# EAGLE library part KAYO_DFPLAYER (library kxnStandard_frame_mutilsensor)
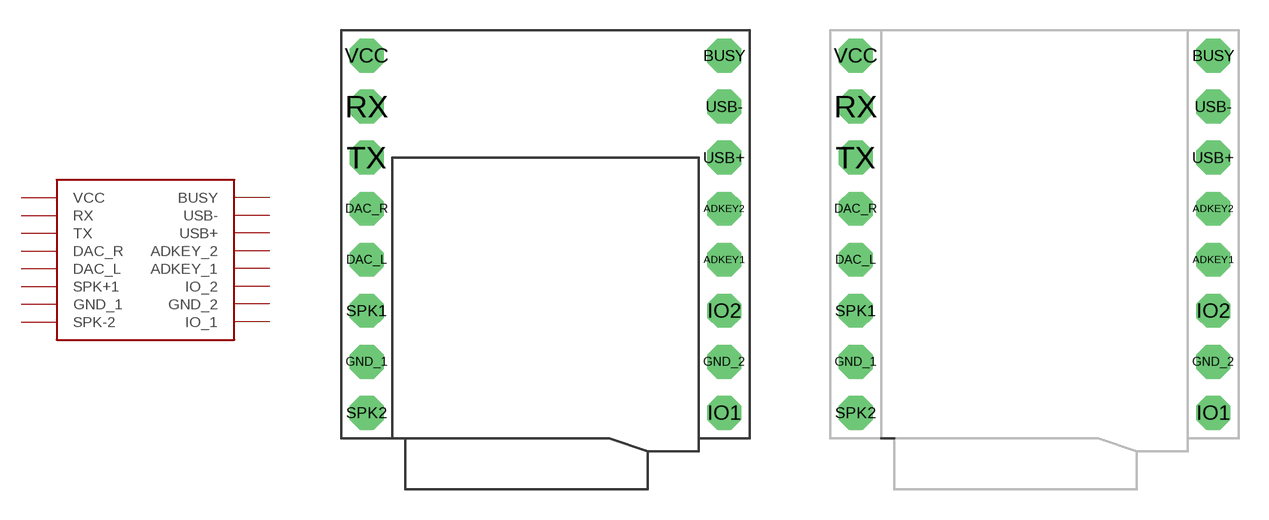
[diagram p1: symbol with the pads of DFPLAYER; footprints DFPLAYER, DFPLAYER_2]

Designator prefix -

## KAYO_DFPLAYER (VALUE: MP3DFPLAYER_Header_F_2-1x8P)  [DFPLAYER]
ADKEY1  ADKEY_1
ADKEY2  ADKEY_2
BUSY  BUSY
DAC_L  DAC_L
DAC_R  DAC_R
GND_1  GND_1
GND_2  GND_2
IO1  IO_1
IO2  IO_2
RX  RX
SPK1  SPK+1
SPK2  SPK-2
TX  TX
USB+  USB+
USB-  USB-
VCC  VCC

## KAYO_DFPLAYER2 (VALUE: MP3DFPLAYER_Header_F_2-1x8P)  [DFPLAYER_2]
Pads as for DFPLAYER

## Footprint DFPLAYER (pad centres in mm)
drill 0.8 pad 1.676 octagon: ADKEY1 8.89,-1.27; ADKEY2 8.89,1.27; BUSY 8.89,8.89; DAC_L -8.89,-1.27; DAC_R -8.89,1.27; GND_1 -8.89,-6.35; GND_2 8.89,-6.35; IO1 8.89,-8.89; IO2 8.89,-3.81; RX -8.89,6.35; SPK1 -8.89,-3.81; SPK2 -8.89,-8.89; TX -8.89,3.81; USB+ 8.89,3.81; USB- 8.89,6.35; VCC -8.89,8.89

## Footprint DFPLAYER_2 (pad centres in mm)
drill 0.8 pad 1.676 octagon: ADKEY1 8.89,-1.27; ADKEY2 8.89,1.27; BUSY 8.89,8.89; DAC_L -8.89,-1.27; DAC_R -8.89,1.27; GND_1 -8.89,-6.35; GND_2 8.89,-6.35; IO1 8.89,-8.89; IO2 8.89,-3.81; RX -8.89,6.35; SPK1 -8.89,-3.81; SPK2 -8.89,-8.89; TX -8.89,3.81; USB+ 8.89,3.81; USB- 8.89,6.35; VCC -8.89,8.89